# Altium footprint library TPS259631DDAR.PcbLib: 1 footprints
Each footprint in its own frame and in the unit in brackets; x right, y up, seen from the top. Pads: shape width x height; smd on the part's side, far side on the other; paste and mask are expansions set on the pad; w line width, h text height; cw(c..) or ccw(c..) is an arc to the next point about the centre after c.
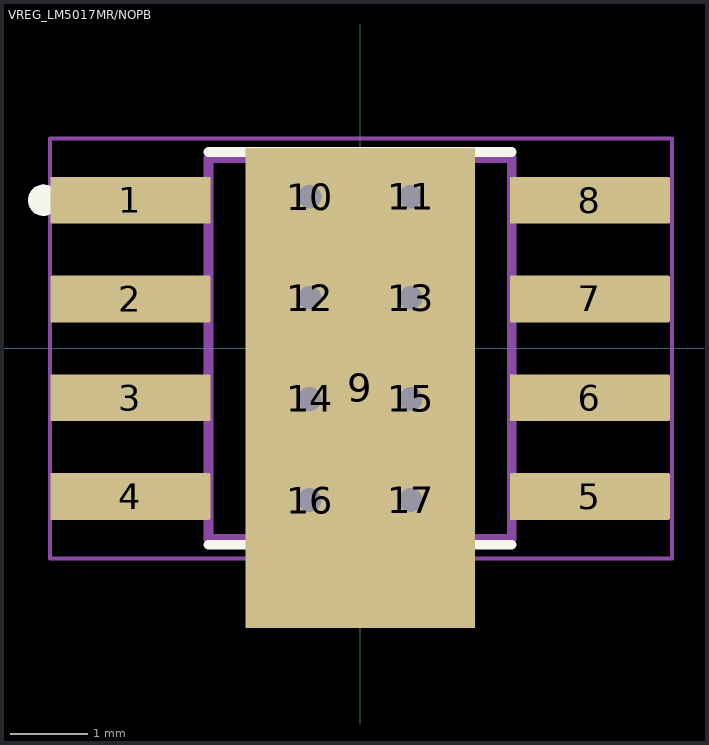
[diagram p0: the footprint, top view; thin cyan lines are the x and y axes]

## VREG_LM5017MR/NOPB [mm]
pads (17):
  rrect5% 2.058x0.6 smd mask+0: 1(-2.954,1.905) 2(-2.954,0.635) 3(-2.954,-0.635) 4(-2.954,-1.905) 5(2.954,-1.905) 6(2.954,-0.635) 7(2.954,0.635) 8(2.954,1.905)
  rect 2.95x6.17 smd paste-3 mask+0: 9(0,-0.508)
  round 0.762 hole 0.305: 10(-0.65,1.95) 11(0.65,1.95) 12(-0.65,0.65) 13(0.65,0.65) 14(-0.65,-0.65) 15(0.65,-0.65) 16(-0.65,-1.95) 17(0.65,-1.95)
Top Overlay:
  circle w0.2: c-4.07,1.905 r0.1
  lines w0.127: -1.95,-2.525 1.95,-2.525 ; -1.95,2.525 1.95,2.525
Top Paste:
  region: 1.355,-1.7 -1.355,-1.7 -1.355,1.7 1.355,1.7
Top Solder:
  drawing of 9 lines, arcs and shapes, not listed
Mechanical 13:
  circle w0.2: c-4.07,1.905 r0.1
  lines w0.127: -1.95,-2.45 -1.95,2.45 1.95,2.45 1.95,-2.45 -1.95,-2.45
Mechanical 15:
  lines w0.05: -3.988,-2.7 -3.988,2.7 4.013,2.7 4.013,-2.7 -3.988,-2.7
3D body "TPS259631DDAR.STEP": height 1.7, standoff 0, extent -3,-2.45 3,2.45